# EAGLE library part VGA-DB15 (library vga-db15)
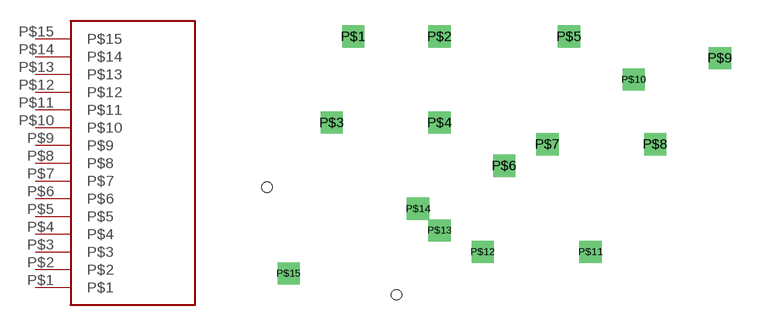
[diagram p0: symbol with the pads of VGA-DB15; footprint VGA-DB15]

Designator prefix -

## VGA-DB15  [VGA-DB15]
P$1  P$1
P$2  P$2
P$3  P$3
P$4  P$4
P$5  P$5
P$6  P$6
P$7  P$7
P$8  P$8
P$9  P$9
P$10  P$10
P$11  P$11
P$12  P$12
P$13  P$13
P$14  P$14
P$15  P$15

## Footprint VGA-DB15 (pad centres in mm)
drill 0.8 square: P$1 -10.16,8.89; P$2 -5.08,8.89; P$3 -11.43,3.81; P$4 -5.08,3.81; P$5 2.54,8.89; P$6 -1.27,1.27; P$7 1.27,2.54; P$8 7.62,2.54; P$9 11.43,7.62; P$10 6.35,6.35; P$11 3.81,-3.81; P$12 -2.54,-3.81; P$13 -5.08,-2.54; P$14 -6.35,-1.27; P$15 -13.97,-5.08
hole 0.6 at -15.24,0
hole 0.6 at -7.62,-6.35